# Altium schematic symbol library Cards.SchLib: 1 symbol
Pins are listed as number, name and electrical type; pins without a type are passive.

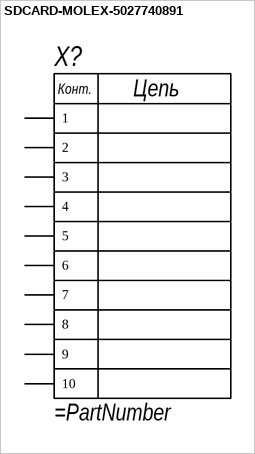
[diagram p0: symbol SDCARD-MOLEX-5027740891]

## SDCARD-MOLEX-5027740891
designator X?
MOLEX 5027740891
pins: 1, 2, 3, 4, 5, 6, 7, 8, 9, 10
text: Цепь; Конт.